# EAGLE library part MCP73833 (library SparkFun-IC-Power)
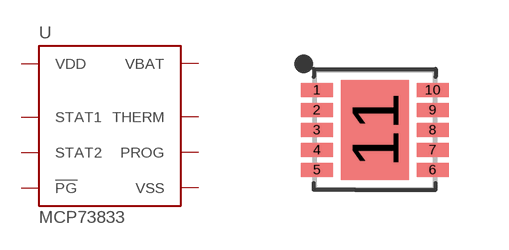
[diagram p26: symbol with the pads of DFN-10; footprint DFN-10]

Designator prefix U

## MCP73833 (PROD_ID: IC-14369; VALUE: MCP73833)  [DFN-10]
1  VDD
2  VDD
3  STAT1
4  STAT2
5  VSS
6  PROG
7  !PG
8  THERM
9  VBAT
10  VBAT
11  VSS

## Footprint DFN-10 (pad centres in mm)
smd 0.8 x 0.35: 1 -1.45,1; 2 -1.45,0.5; 3 -1.45,0; 4 -1.45,-0.5; 5 -1.45,-1; 6 1.45,-1; 7 1.45,-0.5; 8 1.45,0; 9 1.45,0.5; 10 1.45,1
smd 1.7 x 2.5: 11 0,0